# Altium footprint library Footprint_SMT_IC_QFN_DFN_MLP.PcbLib: 14 footprints
Each footprint in its own frame and in the unit in brackets; x right, y up, seen from the top. Pads: shape width x height; smd on the part's side, far side on the other; paste and mask are expansions set on the pad; w line width, h text height; cw(c..) or ccw(c..) is an arc to the next point about the centre after c.
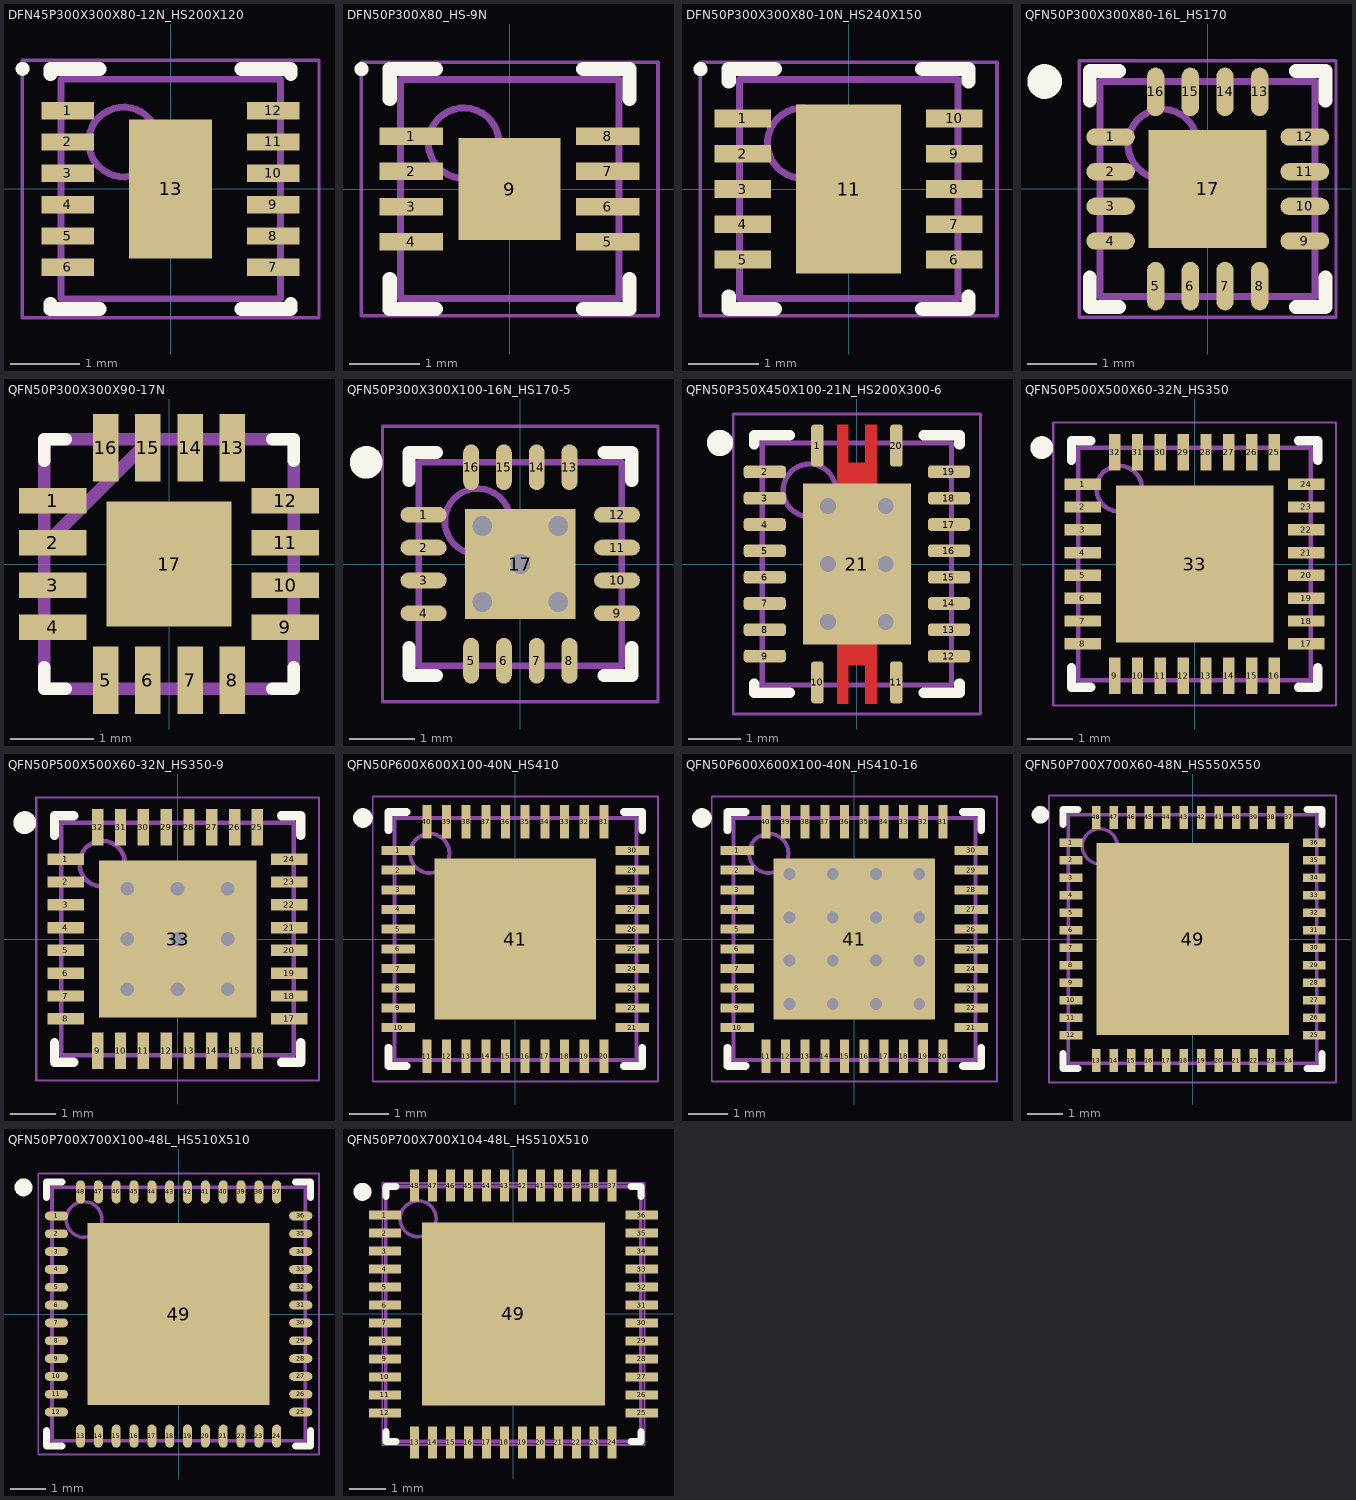
[diagram p0: the footprints below, top view; thin cyan lines are the x and y axes]

## DFN45P300X300X80-12N_HS200X120 [mm] "DFN, 12-Leads, Body 3.00x3.00mm, Pitch 0.45mm, Thermal Pad 2.00x1.19mm, IPC Medium Density"
height 0.8
pads (13):
  rect 0.75x0.25 smd: 1(-1.475,1.125) 2(-1.475,0.675) 3(-1.475,0.225) 4(-1.475,-0.225) 5(-1.475,-0.675) 6(-1.475,-1.125) 7(1.475,-1.125) 8(1.475,-0.675) 9(1.475,-0.225) 10(1.475,0.225) 11(1.475,0.675) 12(1.475,1.125)
  rect 1.19x2 smd: 13(0,0)
Top Overlay:
  circle w0.1: c-2.125,1.725 r0.05
  lines w0.2: -1.725,-1.65 -1.725,-1.725 -1.02,-1.725 ; -1.725,1.65 -1.725,1.725 -1.02,1.725 ; 1.02,-1.725 1.725,-1.725 1.725,-1.65 ; 1.02,1.725 1.725,1.725 1.725,1.65
Mechanical 13:
  circle w0.1: c-0.675,0.675 r0.5
  lines w0.1: -1.575,-1.575 1.575,-1.575 1.575,1.575 -1.575,1.575 -1.575,-1.575
Mechanical 15:
  lines w0.05: -2.13,-1.85 2.13,-1.85 2.13,1.85 -2.13,1.85 -2.13,-1.85
  lines w0.1: -0.5,0 0.5,0 ; 0,-0.5 0,0.5
3D body "DFN45P300X80-12N_HS200X120.step": height 0.8, standoff 0, extent -1.625,-1.575 1.625,1.575

## DFN50P300X80_HS-9N [mm] "SON, 8-Leads, Body 3.00x3.00mm, Pitch 0.50mm, Thermal Pad 1.45x1.45mm, IPC Medium Density"
height 0.8
pads (9):
  rect 0.9x0.25 smd: 1(-1.395,0.75) 2(-1.395,0.25) 3(-1.395,-0.25) 4(-1.395,-0.75) 5(1.395,-0.75) 6(1.395,-0.25) 7(1.395,0.25) 8(1.395,0.75)
  rect 1.45x1.45 smd: 9(0,0)
Top Overlay:
  circle w0.1: c-2.1,1.7 r0.05
  lines w0.2: -1.7,-1.275 -1.7,-1.7 -1.045,-1.7 ; -1.7,1.275 -1.7,1.7 -1.045,1.7 ; 1.045,-1.7 1.7,-1.7 1.7,-1.275 ; 1.045,1.7 1.7,1.7 1.7,1.275
Mechanical 13:
  circle w0.1: c-0.65,0.65 r0.5
  lines w0.1: -1.55,-1.55 1.55,-1.55 1.55,1.55 -1.55,1.55 -1.55,-1.55
Mechanical 15:
  lines w0.05: -2.105,-1.8 2.105,-1.8 2.105,1.8 -2.105,1.8 -2.105,-1.8
  lines w0.1: -0.5,0 0.5,0 ; 0,-0.5 0,0.5
3D body "DFN50P300X80_HS-9N.step": height 0.8, standoff 0, extent -1.6,-1.55 1.6,1.55

## DFN50P300X300X80-10N_HS240X150 [mm] "DFN, 10-Leads, Body 3.00x3.00mm, Pitch 0.50mm, Thermal Pad 2.40x1.50mm, IPC Medium Density"
height 0.8
pads (11):
  rect 0.8x0.25 smd: 1(-1.5,1) 2(-1.5,0.5) 3(-1.5,0) 4(-1.5,-0.5) 5(-1.5,-1) 6(1.5,-1) 7(1.5,-0.5) 8(1.5,0) 9(1.5,0.5) 10(1.5,1)
  rect 1.49x2.4 smd: 11(0,0)
Top Overlay:
  circle w0.1: c-2.1,1.7 r0.05
  lines w0.2: -1.7,-1.525 -1.7,-1.7 -1.045,-1.7 ; -1.7,1.525 -1.7,1.7 -1.045,1.7 ; 1.045,-1.7 1.7,-1.7 1.7,-1.525 ; 1.045,1.7 1.7,1.7 1.7,1.525
Mechanical 13:
  circle w0.1: c-0.65,0.65 r0.5
  lines w0.1: -1.55,-1.55 1.55,-1.55 1.55,1.55 -1.55,1.55 -1.55,-1.55
Mechanical 15:
  lines w0.05: -2.105,-1.8 2.105,-1.8 2.105,1.8 -2.105,1.8 -2.105,-1.8
  lines w0.1: -0.5,0 0.5,0 ; 0,-0.5 0,0.5
3D body "DFN50P300X300-10N_HS240X150.step": height 0.8, standoff 0, extent -1.6,-1.55 1.6,1.55

## QFN50P300X300X80-16L_HS170 [mm] "QFN, 16-Leads, Body 3.00x3.00mm, Pitch 0.50mm, Thermal Pad 1.70x1.70mm, IPC High Density"
height 0.8
pads (17):
  oval 0.7x0.25 smd: 1(-1.4,0.75) 2(-1.4,0.25) 3(-1.4,-0.25) 4(-1.4,-0.75) 9(1.4,-0.75) 10(1.4,-0.25) 11(1.4,0.25) 12(1.4,0.75)
  oval 0.25x0.7 smd: 5(-0.75,-1.4) 6(-0.25,-1.4) 7(0.25,-1.4) 8(0.75,-1.4) 13(0.75,1.4) 14(0.25,1.4) 15(-0.25,1.4) 16(-0.75,1.4)
  rect 1.7x1.7 smd: 17(0,0)
Top Overlay:
  circle w0.25: c-2.35,1.55 r0.125
  lines w0.2: -1.7,-1.275 -1.7,-1.7 -1.275,-1.7 ; -1.7,1.275 -1.7,1.7 -1.275,1.7 ; 1.275,-1.7 1.7,-1.7 1.7,-1.275 ; 1.275,1.7 1.7,1.7 1.7,1.275
Mechanical 13:
  circle w0.1: c-0.65,0.65 r0.5
  lines w0.1: -1.55,-1.55 1.55,-1.55 1.55,1.55 -1.55,1.55 -1.55,-1.55
Mechanical 15:
  lines w0.05: -1.85,-1.85 1.85,-1.85 1.85,1.85 -1.85,1.85 -1.85,-1.85
  lines w0.1: -0.5,0 0.5,0 ; 0,-0.5 0,0.5
3D body "QFN50P300X300X80-16L_HS170.step": height 0.8, standoff 0, extent -1.551,-1.551 1.551,1.551

## QFN50P300X300X90-17N [mil]
pads (17):
  rect 32x12 smd: 1(-55,30) 2(-55,10) 3(-55,-10) 4(-55,-30) 9(55,-30) 10(55,-10) 11(55,10) 12(55,30)
  rect 12x32 smd: 5(-30,-55) 6(-10,-55) 7(10,-55) 8(30,-55) 13(30,55) 14(10,55) 15(-10,55) 16(-30,55)
  rect 59x59 smd: 17(0,0)
Top Overlay:
  lines w6: -59,-49 -59,-59 -49,-59 ; -59,49 -59,59 -49,59 ; 49,-59 59,-59 59,-49 ; 49,59 59,59 59,49
Mechanical 13:
  lines w6: -59,-36 -59,-24 ; -59,-16 -59,-4 ; -59,4 -59,16 ; -59,9 -9,59 ; -59,24 -59,36 ; -36,-59 -24,-59 ; -36,59 -24,59 ; -16,-59 -4,-59 ; -16,59 -4,59 ; 4,-59 16,-59 ; 4,59 16,59 ; 24,-59 36,-59 ; 24,59 36,59 ; 59,-36 59,-24 ; 59,-16 59,-4 ; 59,4 59,16 ; 59,24 59,36 ; -59,-59 59,-59 59,59 -59,59 -59,-59
3D body "CP_16_27_ADI.step": height 29.65, standoff 0, extent -61.02,-61.02 61.02,61.02

## QFN50P300X300X100-16N_HS170-5 [mm] "QFN, 16-Leads, Body 3.00x3.00mm, Pitch 0.50mm, Thermal Pad 1.68x1.68mm, IPC Medium Density"
height 1
pads (17):
  oval 0.7x0.24 smd: 1(-1.475,0.75) 2(-1.475,0.25) 3(-1.475,-0.25) 4(-1.475,-0.75) 9(1.475,-0.75) 10(1.475,-0.25) 11(1.475,0.25) 12(1.475,0.75)
  oval 0.24x0.7 smd: 5(-0.75,-1.475) 6(-0.25,-1.475) 7(0.25,-1.475) 8(0.75,-1.475) 13(0.75,1.475) 14(0.25,1.475) 15(-0.25,1.475) 16(-0.75,1.475)
  rect 1.68x1.68 smd: 17(0,0)
via 0,0 diameter 0.5 hole 0.3
via 0.58,-0.58 diameter 0.5 hole 0.3
via 0.58,0.58 diameter 0.5 hole 0.3
via -0.58,-0.58 diameter 0.5 hole 0.3
via -0.58,0.58 diameter 0.5 hole 0.3
Top Overlay:
  circle w0.25: c-2.35,1.55 r0.125
  lines w0.2: -1.7,-1.275 -1.7,-1.7 -1.275,-1.7 ; -1.7,1.275 -1.7,1.7 -1.275,1.7 ; 1.275,-1.7 1.7,-1.7 1.7,-1.275 ; 1.275,1.7 1.7,1.7 1.7,1.275
Mechanical 13:
  circle w0.1: c-0.65,0.65 r0.5
  lines w0.1: -1.55,-1.55 -1.55,1.55 1.55,1.55 1.55,-1.55 -1.55,-1.55
Mechanical 15:
  lines w0.05: -2.1,-2.1 -2.1,2.1 2.1,2.1 2.1,-2.1 -2.1,-2.1
  lines w0.1: -0.5,0 0.5,0 ; 0,-0.5 0,0.5
3D body "QFN50P300X300X100_16N_HS170-5.step": height 1, standoff 0, extent -1.6,-1.6 1.6,1.6

## QFN50P350X450X100-21N_HS200X300-6 [mm] "QFN, 20-Leads, Body 3.50x4.50mm, Pitch 1.50mm/0.50mm, Thermal Pad 2.05x3.05mm, IPC Medium Density"
height 1
pads (21):
  rrect50% 0.24x0.8 smd: 1(-0.75,2.25) 10(-0.75,-2.25) 11(0.75,-2.25) 20(0.75,2.25)
  rrect50% 0.8x0.24 smd: 2(-1.75,1.75) 3(-1.75,1.25) 4(-1.75,0.75) 5(-1.75,0.25) 6(-1.75,-0.25) 7(-1.75,-0.75) 8(-1.75,-1.25) 9(-1.75,-1.75) 12(1.75,-1.75) 13(1.75,-1.25) 14(1.75,-0.75) 15(1.75,-0.25) 16(1.75,0.25) 17(1.75,0.75) 18(1.75,1.25) 19(1.75,1.75)
  rect 2.05x3.05 smd: 21(0,0)
via -0.55,1.1 diameter 0.5 hole 0.3
via 0.55,1.1 diameter 0.5 hole 0.3
via -0.55,0 diameter 0.5 hole 0.3
via 0.55,0 diameter 0.5 hole 0.3
via -0.55,-1.1 diameter 0.5 hole 0.3
via 0.55,-1.1 diameter 0.5 hole 0.3
Top Layer:
  region: -0.375,-1.25 0.375,-1.25 0.375,-2.651 0.16,-2.651 0.16,-1.926 -0.16,-1.926 -0.16,-2.651 -0.375,-2.651
  region: -0.375,1.25 0.375,1.25 0.375,2.649 0.16,2.649 0.16,1.924 -0.16,1.924 -0.16,2.649 -0.375,2.649
Top Overlay:
  circle w0.25: c-2.6,2.3 r0.125
  lines w0.2: -1.95,-2.275 -1.95,-2.45 -1.275,-2.45 ; -1.95,2.275 -1.95,2.45 -1.275,2.45 ; 1.275,-2.45 1.95,-2.45 1.95,-2.275 ; 1.275,2.45 1.95,2.45 1.95,2.275
Top Paste:
  region: 0.16,1.925 0.375,1.925 0.375,2.65 0.16,2.65
  region: -0.375,1.925 -0.16,1.925 -0.16,2.65 -0.375,2.65
  region: 0.16,-1.925 0.375,-1.925 0.375,-2.65 0.16,-2.65
  region: -0.375,-1.925 -0.16,-1.925 -0.16,-2.65 -0.375,-2.65
Top Solder:
  region: -0.375,-1.397 0.375,-1.397 0.375,-2.65 0.16,-2.65 0.16,-1.925 -0.16,-1.925 -0.16,-2.65 -0.375,-2.65
  region: -0.375,1.397 0.375,1.397 0.375,2.65 0.16,2.65 0.16,1.925 -0.16,1.925 -0.16,2.65 -0.375,2.65
Mechanical 13:
  circle w0.1: c-0.9,1.4 r0.5
  lines w0.1: -1.8,-2.3 -1.8,2.3 1.8,2.3 1.8,-2.3 -1.8,-2.3
Mechanical 15:
  lines w0.05: -2.35,-2.85 -2.35,2.85 2.35,2.85 2.35,-2.85 -2.35,-2.85
  lines w0.1: -0.5,0 0.5,0 ; 0,-0.5 0,0.5
3D body "QFN50P350X450X100_HS-21N.step": height 1, standoff 0, extent -1.88,-2.38 1.88,2.38

## QFN50P500X500X60-32N_HS350 [mm] "QFN, 32-Leads, Body 5.00x5.00mm, Pitch 0.50mm, Thermal Pad 3.45x3.45mm, IPC Medium Density"
height 0.6
pads (33):
  rect 0.8x0.25 smd: 1(-2.45,1.75) 2(-2.45,1.25) 3(-2.45,0.75) 4(-2.45,0.25) 5(-2.45,-0.25) 6(-2.45,-0.75) 7(-2.45,-1.25) 8(-2.45,-1.75) 17(2.45,-1.75) 18(2.45,-1.25) 19(2.45,-0.75) 20(2.45,-0.25) 21(2.45,0.25) 22(2.45,0.75) 23(2.45,1.25) 24(2.45,1.75)
  rect 0.25x0.8 smd: 9(-1.75,-2.45) 10(-1.25,-2.45) 11(-0.75,-2.45) 12(-0.25,-2.45) 13(0.25,-2.45) 14(0.75,-2.45) 15(1.25,-2.45) 16(1.75,-2.45) 25(1.75,2.45) 26(1.25,2.45) 27(0.75,2.45) 28(0.25,2.45) 29(-0.25,2.45) 30(-0.75,2.45) 31(-1.25,2.45) 32(-1.75,2.45)
  rect 3.45x3.45 smd: 33(0,0)
Top Overlay:
  circle w0.25: c-3.35,2.55 r0.125
  lines w0.2: -2.7,-2.275 -2.7,-2.7 -2.275,-2.7 ; -2.7,2.275 -2.7,2.7 -2.275,2.7 ; 2.275,-2.7 2.7,-2.7 2.7,-2.275 ; 2.275,2.7 2.7,2.7 2.7,2.275
Mechanical 13:
  circle w0.1: c-1.65,1.65 r0.5
  lines w0.1: -2.55,-2.55 2.55,-2.55 2.55,2.55 -2.55,2.55 -2.55,-2.55
Mechanical 15:
  lines w0.05: -3.1,-3.1 3.1,-3.1 3.1,3.1 -3.1,3.1 -3.1,-3.1
  lines w0.1: -0.5,0 0.5,0 ; 0,-0.5 0,0.5
3D body "QFN50P500X500X60-32N_HS350-9.step": height 0.6, standoff 0, extent -2.6,-2.6 2.6,2.6

## QFN50P500X500X60-32N_HS350-9 [mm] "QFN, 32-Leads, Body 5.00x5.00mm, Pitch 0.50mm, Thermal Pad 3.45x3.45mm, IPC Medium Density"
height 0.6
pads (33):
  rect 0.8x0.25 smd: 1(-2.45,1.75) 2(-2.45,1.25) 3(-2.45,0.75) 4(-2.45,0.25) 5(-2.45,-0.25) 6(-2.45,-0.75) 7(-2.45,-1.25) 8(-2.45,-1.75) 17(2.45,-1.75) 18(2.45,-1.25) 19(2.45,-0.75) 20(2.45,-0.25) 21(2.45,0.25) 22(2.45,0.75) 23(2.45,1.25) 24(2.45,1.75)
  rect 0.25x0.8 smd: 9(-1.75,-2.45) 10(-1.25,-2.45) 11(-0.75,-2.45) 12(-0.25,-2.45) 13(0.25,-2.45) 14(0.75,-2.45) 15(1.25,-2.45) 16(1.75,-2.45) 25(1.75,2.45) 26(1.25,2.45) 27(0.75,2.45) 28(0.25,2.45) 29(-0.25,2.45) 30(-0.75,2.45) 31(-1.25,2.45) 32(-1.75,2.45)
  rect 3.45x3.45 smd: 33(0,0)
via -1.1,1.1 diameter 0.5 hole 0.3
via 0,1.1 diameter 0.5 hole 0.3
via 1.1,1.1 diameter 0.5 hole 0.3
via -1.1,0 diameter 0.5 hole 0.3
via 0,0 diameter 0.5 hole 0.3
via 1.1,0 diameter 0.5 hole 0.3
via -1.1,-1.1 diameter 0.5 hole 0.3
via 0,-1.1 diameter 0.5 hole 0.3
via 1.1,-1.1 diameter 0.5 hole 0.3
Top Overlay:
  circle w0.25: c-3.35,2.55 r0.125
  lines w0.2: -2.7,-2.275 -2.7,-2.7 -2.275,-2.7 ; -2.7,2.275 -2.7,2.7 -2.275,2.7 ; 2.275,-2.7 2.7,-2.7 2.7,-2.275 ; 2.275,2.7 2.7,2.7 2.7,2.275
Mechanical 13:
  circle w0.1: c-1.65,1.65 r0.5
  lines w0.1: -2.55,-2.55 -2.55,2.55 2.55,2.55 2.55,-2.55 -2.55,-2.55
Mechanical 15:
  lines w0.05: -3.1,-3.1 -3.1,3.1 3.1,3.1 3.1,-3.1 -3.1,-3.1
  lines w0.1: -0.5,0 0.5,0 ; 0,-0.5 0,0.5
3D body "QFN50P500X500X60-32N_HS350-9.step": height 0.6, standoff 0, extent -2.6,-2.6 2.6,2.6

## QFN50P600X600X100-40N_HS410 [mm] "QFN, 40-Leads, Body 6.00x6.00mm, Pitch 0.50mm, Thermal Pad 4.10x4.10mm, IPC Medium Density"
height 1
pads (41):
  rect 0.85x0.23 smd: 1(-2.975,2.25) 2(-2.975,1.75) 3(-2.975,1.25) 4(-2.975,0.75) 5(-2.975,0.25) 6(-2.975,-0.25) 7(-2.975,-0.75) 8(-2.975,-1.25) 9(-2.975,-1.75) 10(-2.975,-2.25) 21(2.975,-2.25) 22(2.975,-1.75) 23(2.975,-1.25) 24(2.975,-0.75) 25(2.975,-0.25) 26(2.975,0.25) 27(2.975,0.75) 28(2.975,1.25) 29(2.975,1.75) 30(2.975,2.25)
  rect 0.23x0.85 smd: 11(-2.25,-2.975) 12(-1.75,-2.975) 13(-1.25,-2.975) 14(-0.75,-2.975) 15(-0.25,-2.975) 16(0.25,-2.975) 17(0.75,-2.975) 18(1.25,-2.975) 19(1.75,-2.975) 20(2.25,-2.975) 31(2.25,2.975) 32(1.75,2.975) 33(1.25,2.975) 34(0.75,2.975) 35(0.25,2.975) 36(-0.25,2.975) 37(-0.75,2.975) 38(-1.25,2.975) 39(-1.75,2.975) 40(-2.25,2.975)
  rect 4.1x4.1 smd: 41(0,0)
Top Overlay:
  circle w0.25: c-3.875,3.075 r0.125
  lines w0.2: -3.225,-2.765 -3.225,-3.225 -2.765,-3.225 ; -3.225,2.765 -3.225,3.225 -2.765,3.225 ; 2.765,-3.225 3.225,-3.225 3.225,-2.765 ; 2.765,3.225 3.225,3.225 3.225,2.765
Mechanical 13:
  circle w0.1: c-2.175,2.175 r0.5
  lines w0.1: -3.075,-3.075 -3.075,3.075 3.075,3.075 3.075,-3.075 -3.075,-3.075
Mechanical 15:
  lines w0.05: -3.625,-3.625 -3.625,3.625 3.625,3.625 3.625,-3.625 -3.625,-3.625
  lines w0.1: -0.5,0 0.5,0 ; 0,-0.5 0,0.5
3D body "QFN50P600X600X100-40N_HS410-16.step": height 1, standoff 0, extent -3.125,-3.125 3.125,3.125

## QFN50P600X600X100-40N_HS410-16 [mm] "QFN, 40-Leads, Body 6.00x6.00mm, Pitch 0.50mm, Thermal Pad 4.10x4.10mm, IPC Medium Density"
height 1
pads (41):
  rect 0.85x0.23 smd: 1(-2.975,2.25) 2(-2.975,1.75) 3(-2.975,1.25) 4(-2.975,0.75) 5(-2.975,0.25) 6(-2.975,-0.25) 7(-2.975,-0.75) 8(-2.975,-1.25) 9(-2.975,-1.75) 10(-2.975,-2.25) 21(2.975,-2.25) 22(2.975,-1.75) 23(2.975,-1.25) 24(2.975,-0.75) 25(2.975,-0.25) 26(2.975,0.25) 27(2.975,0.75) 28(2.975,1.25) 29(2.975,1.75) 30(2.975,2.25)
  rect 0.23x0.85 smd: 11(-2.25,-2.975) 12(-1.75,-2.975) 13(-1.25,-2.975) 14(-0.75,-2.975) 15(-0.25,-2.975) 16(0.25,-2.975) 17(0.75,-2.975) 18(1.25,-2.975) 19(1.75,-2.975) 20(2.25,-2.975) 31(2.25,2.975) 32(1.75,2.975) 33(1.25,2.975) 34(0.75,2.975) 35(0.25,2.975) 36(-0.25,2.975) 37(-0.75,2.975) 38(-1.25,2.975) 39(-1.75,2.975) 40(-2.25,2.975)
  rect 4.1x4.1 smd: 41(0,0)
via -1.65,1.65 diameter 0.5 hole 0.3
via -0.55,1.65 diameter 0.5 hole 0.3
via 0.55,1.65 diameter 0.5 hole 0.3
via 1.65,1.65 diameter 0.5 hole 0.3
via -1.65,0.55 diameter 0.5 hole 0.3
via -0.55,0.55 diameter 0.5 hole 0.3
via 0.55,0.55 diameter 0.5 hole 0.3
via 1.65,0.55 diameter 0.5 hole 0.3
via -1.65,-0.55 diameter 0.5 hole 0.3
via -0.55,-0.55 diameter 0.5 hole 0.3
via 0.55,-0.55 diameter 0.5 hole 0.3
via 1.65,-0.55 diameter 0.5 hole 0.3
via -1.65,-1.65 diameter 0.5 hole 0.3
via -0.55,-1.65 diameter 0.5 hole 0.3
via 0.55,-1.65 diameter 0.5 hole 0.3
via 1.65,-1.65 diameter 0.5 hole 0.3
Top Overlay:
  circle w0.25: c-3.875,3.075 r0.125
  lines w0.2: -3.225,-2.765 -3.225,-3.225 -2.765,-3.225 ; -3.225,2.765 -3.225,3.225 -2.765,3.225 ; 2.765,-3.225 3.225,-3.225 3.225,-2.765 ; 2.765,3.225 3.225,3.225 3.225,2.765
Mechanical 13:
  circle w0.1: c-2.175,2.175 r0.5
  lines w0.1: -3.075,-3.075 -3.075,3.075 3.075,3.075 3.075,-3.075 -3.075,-3.075
Mechanical 15:
  lines w0.05: -3.625,-3.625 -3.625,3.625 3.625,3.625 3.625,-3.625 -3.625,-3.625
  lines w0.1: -0.5,0 0.5,0 ; 0,-0.5 0,0.5
3D body "QFN50P600X600X100-40N_HS410-16.step": height 1, standoff 0, extent -3.125,-3.125 3.125,3.125

## QFN50P700X700X60-48N_HS550X550 [mm] "QFN, 48-Leads, Body 7.00x7.00mm, Pitch 0.50mm, Thermal Pad 5.50x5.50mm, IPC Medium Density"
height 0.6
pads (49):
  rect 0.65x0.25 smd: 1(-3.475,2.75) 2(-3.475,2.25) 3(-3.475,1.75) 4(-3.475,1.25) 5(-3.475,0.75) 6(-3.475,0.25) 7(-3.475,-0.25) 8(-3.475,-0.75) 9(-3.475,-1.25) 10(-3.475,-1.75) 11(-3.475,-2.25) 12(-3.475,-2.75) 25(3.475,-2.75) 26(3.475,-2.25) 27(3.475,-1.75) 28(3.475,-1.25) 29(3.475,-0.75) 30(3.475,-0.25) 31(3.475,0.25) 32(3.475,0.75) 33(3.475,1.25) 34(3.475,1.75) 35(3.475,2.25) 36(3.475,2.75)
  rect 0.25x0.65 smd: 13(-2.75,-3.475) 14(-2.25,-3.475) 15(-1.75,-3.475) 16(-1.25,-3.475) 17(-0.75,-3.475) 18(-0.25,-3.475) 19(0.25,-3.475) 20(0.75,-3.475) 21(1.25,-3.475) 22(1.75,-3.475) 23(2.25,-3.475) 24(2.75,-3.475) 37(2.75,3.475) 38(2.25,3.475) 39(1.75,3.475) 40(1.25,3.475) 41(0.75,3.475) 42(0.25,3.475) 43(-0.25,3.475) 44(-0.75,3.475) 45(-1.25,3.475) 46(-1.75,3.475) 47(-2.25,3.475) 48(-2.75,3.475)
  rect 5.5x5.5 smd: 49(0,0)
Top Overlay:
  circle w0.25: c-4.35,3.55 r0.125
  lines w0.2: -3.7,-3.275 -3.7,-3.7 -3.275,-3.7 ; -3.7,3.275 -3.7,3.7 -3.275,3.7 ; 3.275,-3.7 3.7,-3.7 3.7,-3.275 ; 3.275,3.7 3.7,3.7 3.7,3.275
Mechanical 13:
  circle w0.1: c-2.65,2.65 r0.5
  lines w0.1: -3.55,-3.55 3.55,-3.55 3.55,3.55 -3.55,3.55 -3.55,-3.55
Mechanical 15:
  lines w0.05: -4.1,-4.1 4.1,-4.1 4.1,4.1 -4.1,4.1 -4.1,-4.1
  lines w0.1: -0.5,0 0.5,0 ; 0,-0.5 0,0.5
3D body "QFN50P700X700X60-48N_HS550X550.step": height 0.6, standoff 0, extent -3.6,-3.6 3.6,3.6

## QFN50P700X700X100-48L_HS510X510 [mm] "QFN, 48-Leads, Body 7.00x7.00mm, Pitch 0.50mm, Thermal Pad 5.10x5.10mm, IPC High Density"
height 1
pads (49):
  oval 0.65x0.25 smd: 1(-3.425,2.75) 2(-3.425,2.25) 3(-3.425,1.75) 4(-3.425,1.25) 5(-3.425,0.75) 6(-3.425,0.25) 7(-3.425,-0.25) 8(-3.425,-0.75) 9(-3.425,-1.25) 10(-3.425,-1.75) 11(-3.425,-2.25) 12(-3.425,-2.75) 25(3.425,-2.75) 26(3.425,-2.25) 27(3.425,-1.75) 28(3.425,-1.25) 29(3.425,-0.75) 30(3.425,-0.25) 31(3.425,0.25) 32(3.425,0.75) 33(3.425,1.25) 34(3.425,1.75) 35(3.425,2.25) 36(3.425,2.75)
  oval 0.25x0.65 smd: 13(-2.75,-3.425) 14(-2.25,-3.425) 15(-1.75,-3.425) 16(-1.25,-3.425) 17(-0.75,-3.425) 18(-0.25,-3.425) 19(0.25,-3.425) 20(0.75,-3.425) 21(1.25,-3.425) 22(1.75,-3.425) 23(2.25,-3.425) 24(2.75,-3.425) 37(2.75,3.425) 38(2.25,3.425) 39(1.75,3.425) 40(1.25,3.425) 41(0.75,3.425) 42(0.25,3.425) 43(-0.25,3.425) 44(-0.75,3.425) 45(-1.25,3.425) 46(-1.75,3.425) 47(-2.25,3.425) 48(-2.75,3.425)
  rect 5.1x5.1 smd: 49(0,0)
Top Overlay:
  circle w0.25: c-4.35,3.55 r0.125
  lines w0.2: -3.7,-3.275 -3.7,-3.7 -3.275,-3.7 ; -3.7,3.275 -3.7,3.7 -3.275,3.7 ; 3.275,-3.7 3.7,-3.7 3.7,-3.275 ; 3.275,3.7 3.7,3.7 3.7,3.275
Mechanical 13:
  circle w0.1: c-2.65,2.65 r0.5
  lines w0.1: -3.55,-3.55 3.55,-3.55 3.55,3.55 -3.55,3.55 -3.55,-3.55
Mechanical 15:
  lines w0.05: -3.937,-3.937 3.937,-3.937 3.937,3.937 -3.937,3.937 -3.937,-3.937
  lines w0.1: -0.5,0 0.5,0 ; 0,-0.5 0,0.5
3D body "QFN50P700X700X100-48L_HS510X510.step": height 1, standoff 0, extent -3.57,-3.57 3.57,3.57

## QFN50P700X700X104-48L_HS510X510 [mm] "QFN, 48-Leads, Body 7.00x7.00mm, Pitch 0.50mm, Thermal Pad 5.10x5.10mm"
height 1.04
pads (49):
  rect 0.9x0.25 smd: 1(-3.575,2.75) 2(-3.575,2.25) 3(-3.575,1.75) 4(-3.575,1.25) 5(-3.575,0.75) 6(-3.575,0.25) 7(-3.575,-0.25) 8(-3.575,-0.75) 9(-3.575,-1.25) 10(-3.575,-1.75) 11(-3.575,-2.25) 12(-3.575,-2.75) 25(3.575,-2.75) 26(3.575,-2.25) 27(3.575,-1.75) 28(3.575,-1.25) 29(3.575,-0.75) 30(3.575,-0.25) 31(3.575,0.25) 32(3.575,0.75) 33(3.575,1.25) 34(3.575,1.75) 35(3.575,2.25) 36(3.575,2.75)
  rect 0.25x0.9 smd: 13(-2.75,-3.575) 14(-2.25,-3.575) 15(-1.75,-3.575) 16(-1.25,-3.575) 17(-0.75,-3.575) 18(-0.25,-3.575) 19(0.25,-3.575) 20(0.75,-3.575) 21(1.25,-3.575) 22(1.75,-3.575) 23(2.25,-3.575) 24(2.75,-3.575) 37(2.75,3.575) 38(2.25,3.575) 39(1.75,3.575) 40(1.25,3.575) 41(0.75,3.575) 42(0.25,3.575) 43(-0.25,3.575) 44(-0.75,3.575) 45(-1.25,3.575) 46(-1.75,3.575) 47(-2.25,3.575) 48(-2.75,3.575)
  rect 5.1x5.1 smd: 49(0,0)
Top Overlay:
  circle w0.25: c-4.2,3.4 r0.125
  lines w0.2: -3.55,-3.275 -3.55,-3.55 -3.275,-3.55 ; -3.55,3.275 -3.55,3.55 -3.275,3.55 ; 3.275,-3.55 3.55,-3.55 3.55,-3.275 ; 3.275,3.55 3.55,3.55 3.55,3.275
Mechanical 13:
  circle w0.1: c-2.65,2.65 r0.5
  lines w0.1: -3.55,-3.55 3.55,-3.55 3.55,3.55 -3.55,3.55 -3.55,-3.55
Mechanical 15:
  lines w0.05: -3.65,-3.65 3.65,-3.65 3.65,3.65 -3.65,3.65 -3.65,-3.65
  lines w0.1: -0.5,0 0.5,0 ; 0,-0.5 0,0.5
3D body "QFN50P700X700X104-48L_HS510X510.step": height 1.04, standoff 0, extent -3.55,-3.55 3.55,3.55